# EAGLE library part 62P22 (library Drehencoder - Grayhill)
Grayhill 62P22 Optischer Drehencoder mit Taste Lebensdauer: 2.000 000 Umdrehungen
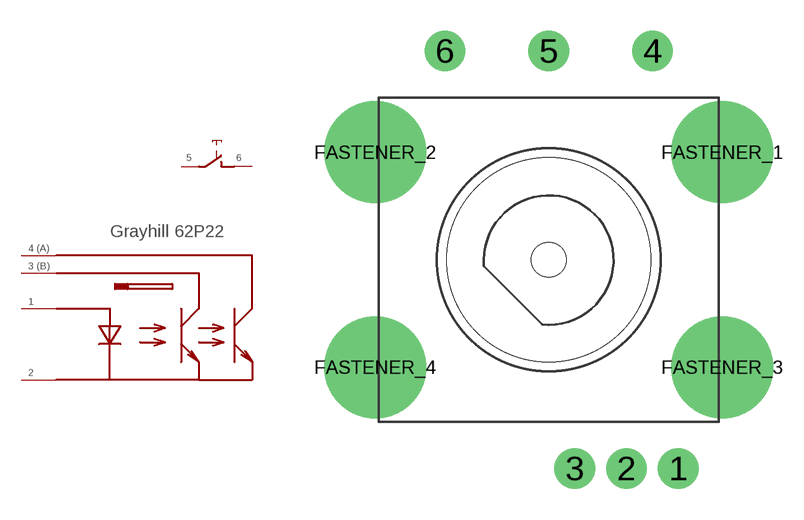
[diagram p0: symbol with the pads of 62P22; footprint 62P22]

Designator prefix -; gates G$1=ENCODER G$2=PUSHBUTTON

## 62P22THT  [62P22]
1  G$1:1  in
2  G$1:2  in
3  G$1:3  out
4  G$1:4  out
5  G$2:1
6  G$2:2

## Footprint 62P22 (pad centres in mm)
Grayhill 62P22 Optischer Drehencoder print Lebenszeit: 2.000 000 Umdrehungen
drill 1.1 pad 2: 1 6.35,-10.236; 2 3.81,-10.236; 3 1.27,-10.236; 4 5.08,10.236; 5 0,10.236; 6 -5.08,10.236
drill 2.5 pad 5: FASTENER_1 8.495,5.27; FASTENER_2 -8.505,5.27; FASTENER_3 8.495,-5.27; FASTENER_4 -8.505,-5.27
hole 1.7 at 0,0